# EAGLE library part EHF-120-01-FM-D-RA (library SAMTEC_EHF_By_element14_Batch_1)
CONN HEADER, 1.27MM, THRU HOLE, 40WAY R/A
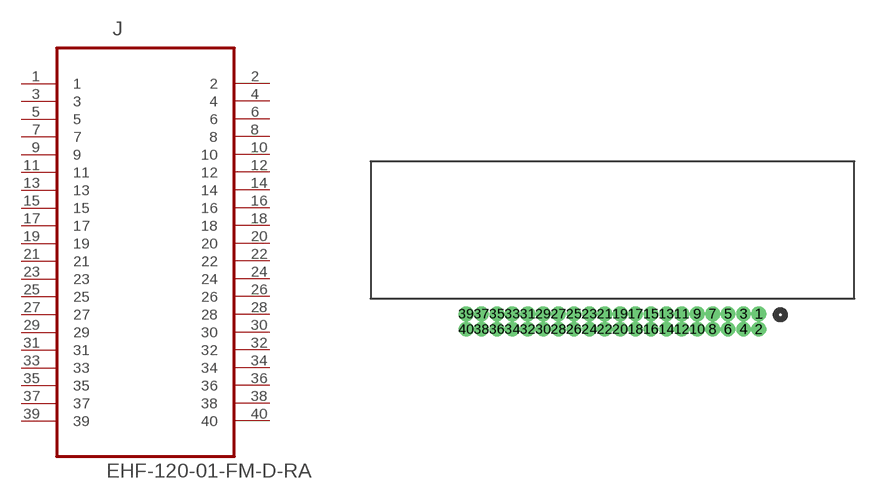
[diagram p0: symbol with the pads of SAMTEC_EHF-120-01-FM-D-RA; footprint SAMTEC_EHF-120-01-FM-D-RA]

Designator prefix J

## EHF-120-01-FM-D-RA (MPN: EHF-120-01-FM-D-RA; OC_FARNELL: -; OC_NEWARK: 67P3431; PACKAGE: HEADER, 1.27MM, THRU HOLE, 40WAY R/A; SUPPLIER: SAMTEC)  [SAMTEC_EHF-120-01-FM-D-RA]
1  1  pas
2  2  pas
3  3  pas
4  4  pas
5  5  pas
6  6  pas
7  7  pas
8  8  pas
9  9  pas
10  10  pas
11  11  pas
12  12  pas
13  13  pas
14  14  pas
15  15  pas
16  16  pas
17  17  pas
18  18  pas
19  19  pas
20  20  pas
21  21  pas
22  22  pas
23  23  pas
24  24  pas
25  25  pas
26  26  pas
27  27  pas
28  28  pas
29  29  pas
30  30  pas
31  31  pas
32  32  pas
33  33  pas
34  34  pas
35  35  pas
36  36  pas
37  37  pas
38  38  pas
39  39  pas
40  40  pas

## Footprint SAMTEC_EHF-120-01-FM-D-RA (pad centres in mm)
drill 0.711: 1 24.13,1.27; 2 24.13,0; 3 22.86,1.27; 4 22.86,0; 5 21.59,1.27; 6 21.59,0; 7 20.32,1.27; 8 20.32,0; 9 19.05,1.27; 10 19.05,0; 11 17.78,1.27; 12 17.78,0; 13 16.51,1.27; 14 16.51,0; 15 15.24,1.27; 16 15.24,0; 17 13.97,1.27; 18 13.97,0; 19 12.7,1.27; 20 12.7,0; 21 11.43,1.27; 22 11.43,0; 23 10.16,1.27; 24 10.16,0; 25 8.89,1.27; 26 8.89,0; 27 7.62,1.27; 28 7.62,0; 29 6.35,1.27; 30 6.35,0; 31 5.08,1.27; 32 5.08,0; 33 3.81,1.27; 34 3.81,0; 35 2.54,1.27; 36 2.54,0; 37 1.27,1.27; 38 1.27,0; 39 0,1.27; 40 0,0